# Altium integrated library AD8065ARTZ-REEL7.IntLib: 1 symbol
Pins are listed as number, name and electrical type; pins without a type are passive.

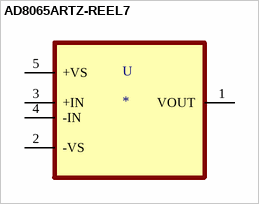
[diagram p0: symbol AD8065ARTZ-REEL7]

## AD8065ARTZ-REEL7
designator U
Voltage Feedback Amplifier 1 Circuit Rail-to-Rail SOT-23-5; MF: Analog Devices; MP: AD8065ARTZ-REEL7; Price: None; Package: SOT-23-5 Analog Devices; Value: *; DigiKey-Purchase-URL: https://snapeda.com/shop?store=DigiKey&id=385700; SnapEDA_Link: https://www.snapeda.com/parts/AD8065ARTZ-REEL7/Analog%20Devices%20Inc./view-part/385700/?ref=snap; Availability: Unavailable
footprint SOT95P290X145-5N
pins: 1 VOUT, 2 -VS (power), 3 +IN, 4 -IN, 5 +VS (power)